# Altium footprint library 封装库.PCBLIB: 282 footprints (part 2 of 18)
Each footprint in its own frame and in the unit in brackets; x right, y up, seen from the top. Pads: shape width x height; smd on the part's side, far side on the other; paste and mask are expansions set on the pad; w line width, h text height; cw(c..) or ccw(c..) is an arc to the next point about the centre after c.
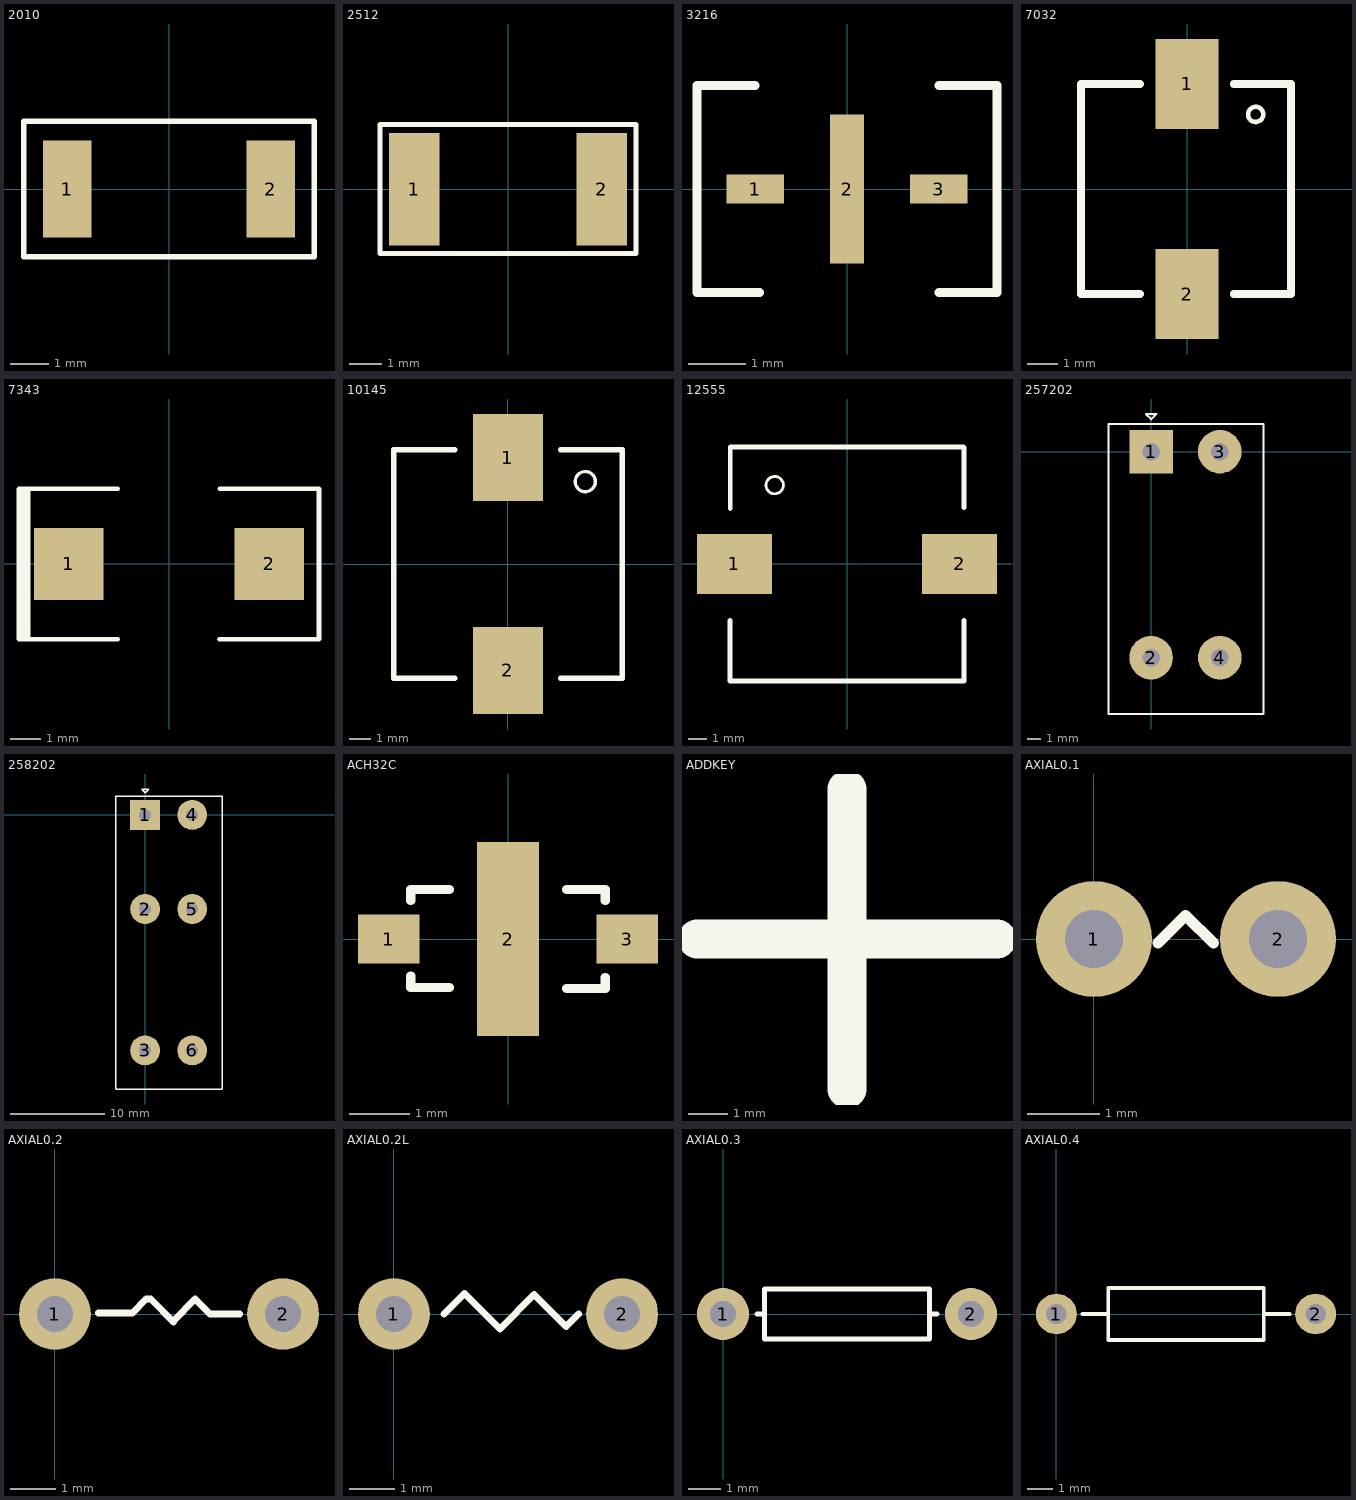
[diagram p1: the footprints below, top view; thin cyan lines are the x and y axes]

## 2010 [mil]
pads (2):
  rect 50x100 smd: 1(-105,0) 2(105,0)
TopOverlay:
  lines w6: -150,-70 150,-70 150,70 -150,70 -150,-70

## 2512 [mm]
pads (2):
  rect 1.55x3.45 smd: 1(-2.875,0) 2(2.875,0)
TopOverlay:
  lines w0.152: -3.925,-1.975 3.925,-1.975 3.925,1.975 -3.925,1.975 -3.925,-1.975

## 3216 [mm]
pads (3):
  rect 1x0.5 smd: 1(-1.6,0) 3(1.6,0)
  rect 0.6x2.6 smd: 2(0,0)
TopOverlay:
  lines w0.152: -2.616,-0.254 -2.616,0.991 ; -2.616,0.279 -2.616,-1.803 ; -2.616,0.381 -2.616,1.499 ; -2.616,1.118 -2.616,1.803 ; -1.778,1.803 -2.616,1.803 ; -1.6,-1.803 -2.616,-1.803 ; -1.6,1.803 -2.616,1.803 ; -1.524,-1.803 -2.616,-1.803 ; 1.6,-1.803 2.616,-1.803 2.616,-0.838 ; 1.6,1.803 2.616,1.803 2.616,-1.448 ; 2.616,-0.254 2.616,1.778

## 7032 [mm]
pads (2):
  rect 2.1x3 smd: 1(0,3.505) 2(0,-3.505)
TopOverlay:
  circle w0.152: c2.286,2.489 r0.254
  lines w0.254: -1.575,-3.505 -3.543,-3.505 -3.543,3.505 -1.575,3.505 ; 1.549,-3.505 3.467,-3.505 3.467,3.505 1.549,3.505

## 7343 [mm]
pads (2):
  rect 2.3x2.4 smd: 1(-3.327,0) 2(3.327,0)
TopOverlay:
  rectangle: -4.978,-2.504 -4.724,2.5
  lines w0.152: -4.674,-2.504 -4.674,2.5 ; -4.166,-2.504 -4.978,-2.504 ; -1.702,-2.504 -4.978,-2.504 ; -1.702,2.5 -4.978,2.5 -4.978,-2.504 ; 1.676,-2.504 4.978,-2.504 4.978,2.496 1.687,2.496 ; 4.976,2.489 4.977,2.488

## 10145 [mm]
pads (2):
  rect 3.2x4 smd: 1(0,4.889) 2(0,-4.889)
TopOverlay:
  circle w0.152: c3.55,3.785 r0.463
  lines w0.254: -2.44,-5.245 -3.421,-5.245 -5.25,-5.245 -5.25,5.255 -2.71,5.255 -2.44,5.255 ; 2.431,-5.245 3.234,-5.245 ; 2.431,5.255 3.107,5.255 ; 2.446,5.255 5.25,5.255 5.25,-5.245 3.005,-5.245 ; 3.183,-5.245 3.691,-5.245

## 12555 [mm]
pads (2):
  rect 4x3.2 smd: 1(-6.02,0) 2(6.02,0)
TopOverlay:
  circle w0.152: c-3.867,4.216 r0.463
  lines w0.254: -6.25,-5.207 -6.25,-6.25 ; -6.25,-3.016 -6.25,-6.25 ; -6.248,2.972 -6.248,6.248 ; -6.248,3.014 -6.248,6.248 ; -5.994,6.248 6.248,6.248 ; -5.41,-6.25 6.25,-6.25 6.25,-3.016 ; -3.683,6.248 -6.248,6.248 ; -3.048,6.248 -6.248,6.248 ; 0.254,-6.25 -6.25,-6.25 ; 6.25,3.013 6.25,5.258 ; 6.25,3.429 6.25,6.247 ; 6.248,6.248 6.25,6.247 ; 6.248,6.248 6.25,6.247

## 257202 [mm]
pads (4):
  rect 3.175x3.175 hole 1.27: 1(0,0)
  round 3.175 hole 1.27: 2(0,-15) 3(5,0) 4(5.004,-15)
TopOverlay:
  lines w0.152: -3.1,-2.642 -3.1,1.904 ; -3.1,0.838 -3.1,2.005 7.266,2.005 ; -3.1,0.889 -3.1,-18.439 -3.1,-19.098 8.176,-19.098 ; 6.807,2.005 8.18,2.005 8.18,0 ; 8.18,-19.094 8.18,1.27 ; -0.381,2.743 0,2.362 0.381,2.743 -0.381,2.743

## 258202 [mm]
pads (6):
  rect 3.175x3.175 hole 1.27: 1(0,0)
  round 3.175 hole 1.27: 2(0,-10) 3(0,-25) 4(5,0) 5(5,-10) 6(5,-25)
TopOverlay:
  lines w0.152: -3.1,-29.092 -3.1,0 ; -3.1,-0.61 -3.1,1.992 0.203,1.992 ; -3.092,-29.1 -1.448,-29.1 8.17,-29.1 ; 0,1.992 8.172,1.992 8.172,-29.098 ; -0.381,2.743 0.381,2.743 0,2.362 -0.381,2.743

## ACH32C [mm] "ACH32 series 3-terminal Filters For Power Line"
pads (3):
  rect 1.016x0.8 smd: 1(-1.96,0) 3(1.96,0)
  rect 1.016x3.2 smd: 2(0,0)
TopOverlay:
  lines w0.152: -1.6,-0.61 -1.6,-0.8 -0.965,-0.8 ; -1.6,0.635 -1.6,0.813 -0.965,0.813 ; 0.965,-0.813 1.6,-0.813 1.6,-0.635 ; 0.965,0.813 1.6,0.813 1.6,0.635

## ADDKEY [mm]
TopOverlay:
  lines w1: -3.81,0 0,0 ; 0,-3.81 0,0 ; 0,3.81 0,0 ; 3.81,0 0,0

## AXIAL0.1 [mm]
pads (2):
  round 1.6 hole 0.8: 1(0,0) 2(2.54,0)
TopOverlay:
  lines w0.152: 0.884,-0.055 1.265,0.326 1.646,-0.055

## AXIAL0.2 [mm]
pads (2):
  round 1.6 hole 0.8: 1(0,0) 2(5.08,0)
TopOverlay:
  lines w0.152: 0.965,0.025 1.727,0.025 2.032,0.33 2.134,0.33 2.642,-0.178 2.642,-0.152 3.124,0.33 3.454,0 4.115,0

## AXIAL0.2L [mm]
pads (2):
  round 1.6 hole 0.8: 1(0,0) 2(5.08,0)
TopOverlay:
  lines w0.152: 1.118,0 1.575,0.457 2.362,-0.33 3.124,0.432 3.835,-0.279 4.115,0

## AXIAL0.3 [mm]
pads (2):
  round 1.6 hole 0.8: 1(0,0) 2(7.62,0)
TopOverlay:
  lines w0.152: 1.041,0 1.27,0 ; 6.579,0 6.35,0 ; 6.35,0 6.35,0.762 1.27,0.762 1.27,-0.762 6.35,-0.762 6.35,0

## AXIAL0.4 [mm]
pads (2):
  round 1.6 hole 0.8: 1(0,0) 2(10.16,0)
TopOverlay:
  lines w0.152: 1.016,0 2.032,0 ; 8.128,0 9.144,0 ; 2.032,-1.016 8.128,-1.016 8.128,1.016 2.032,1.016 2.032,-1.016